# Altium footprint library samll car.PcbLib: 5 footprints
Each footprint in its own frame and in the unit in brackets; x right, y up, seen from the top. Pads: shape width x height; smd on the part's side, far side on the other; paste and mask are expansions set on the pad; w line width, h text height; cw(c..) or ccw(c..) is an arc to the next point about the centre after c.
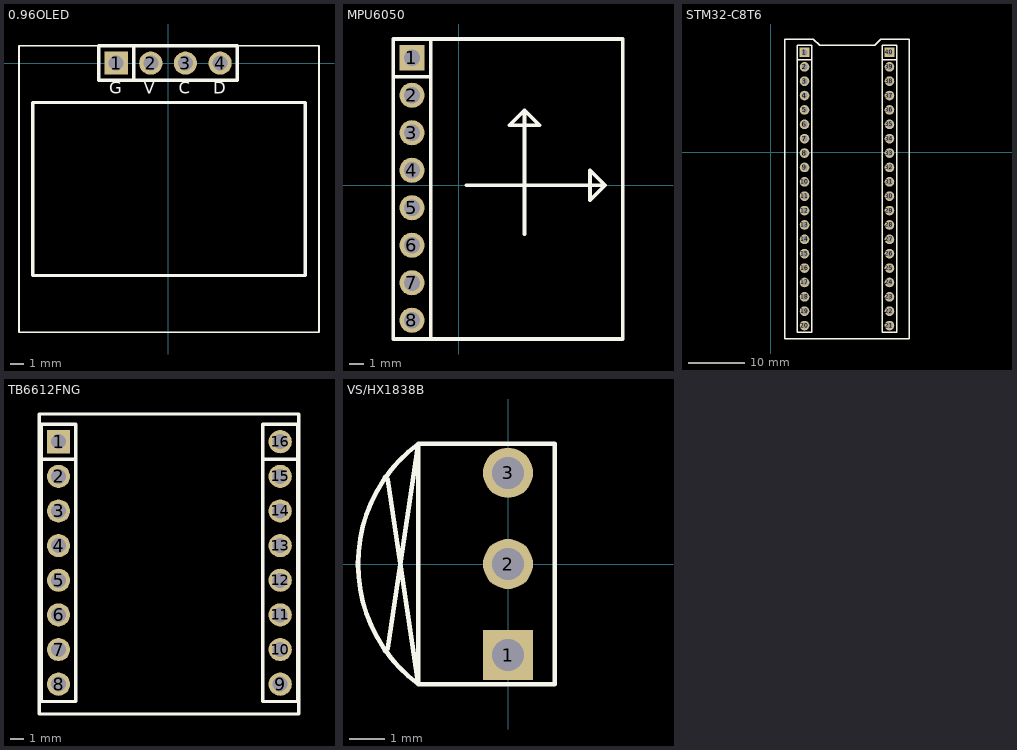
[diagram p0: the footprints below, top view; thin cyan lines are the x and y axes]

## 0.96OLED [mm]
pads (4):
  rect 1.7x1.7 hole 1.1 paste-2539.97 mask+0.051: 1(-3.81,0)
  round 1.7 hole 1.1 paste-2539.97 mask+0.051: 2(-1.27,0) 3(1.27,0) 4(3.81,0)
Top Overlay:
  lines w0.127: -10.936,-19.73 11.064,-19.73 11.064,1.27 -10.936,1.27 -10.936,-19.73
  lines w0.254: -2.516,-1.27 -2.516,1.27 ; -2.516,1.27 -5.08,1.27 -5.08,-1.27 5.08,-1.27 5.08,1.27 -2.516,1.27 ; -9.936,-15.572 10.064,-15.572 10.064,-2.888 -9.936,-2.888 -9.936,-15.572
  text "D" at 3.302,-2.54 h1.52
  text "C" at 0.762,-2.524 h1.52
  text "V" at -1.777,-2.54 h1.52
  text "G" at -4.318,-2.524 h1.52
Mechanical 15:
  lines w0.003: 1.206,0.127 1.207,0.127

## MPU6050 [mm]
pads (8):
  rect 1.7x1.7 hole 1.1 paste-2539.97 mask+0.051: 1(-3.175,8.636)
  round 1.7 hole 1.1 paste-2539.97 mask+0.051: 2(-3.175,6.096) 3(-3.175,3.556) 4(-3.175,1.016) 5(-3.175,-1.524) 6(-3.175,-4.064) 7(-3.175,-6.604) 8(-3.175,-9.144)
Top Overlay:
  lines w0.254: -4.445,7.342 -1.905,7.342 ; 0.508,0 9.906,0 ; 4.445,-3.302 4.445,5.08 ; -4.445,-10.414 11.115,-10.414 11.115,9.906 -4.445,9.906 ; -4.445,-10.414 -4.445,9.906 ; -4.445,-10.414 -1.905,-10.414 -1.905,7.342 ; -4.445,9.906 -1.905,9.906 -1.905,7.342 ; 4.445,5.08 5.461,4.064 3.556,4.064 3.429,4.064 4.445,5.08 ; 9.906,0 8.89,1.016 8.89,-1.016 9.906,0

## STM32-C8T6 [mm]
pads (40):
  rect 1.7x1.7 hole 1.1 paste-2539.97 mask+0.051: 1(5.969,17.653) 40(20.969,17.653)
  round 1.7 hole 1.1 paste-2539.97 mask+0.051: 2(5.969,15.113) 3(5.969,12.573) 4(5.969,10.033) 5(5.969,7.493) 6(5.969,4.953) 7(5.969,2.413) 8(5.969,-0.127) 9(5.969,-2.667) 10(5.969,-5.207) 11(5.969,-7.747) 12(5.969,-10.287) 13(5.969,-12.827) 14(5.969,-15.367) 15(5.969,-17.907) 16(5.969,-20.447) 17(5.969,-22.987) 18(5.969,-25.527) 19(5.969,-28.067) 20(5.969,-30.607) 21(20.969,-30.607) 22(20.969,-28.067) 23(20.969,-25.527) 24(20.969,-22.987) 25(20.969,-20.447) 26(20.969,-17.907) 27(20.969,-15.367) 28(20.969,-12.827) 29(20.969,-10.287) 30(20.969,-7.747) 31(20.969,-5.207) 32(20.969,-2.667) 33(20.969,-0.127) 34(20.969,2.413) 35(20.969,4.953) 36(20.969,7.493) 37(20.969,10.033) 38(20.969,12.573) 39(20.969,15.113)
Top Overlay:
  lines w0.254: 4.699,16.359 7.239,16.359 ; 19.699,-16.637 19.699,18.923 ; 22.239,-16.637 22.239,16.359 ; 7.239,16.359 7.239,18.923 4.699,18.923 4.699,-31.75 7.239,-31.75 7.239,16.359 ; 19.699,18.923 22.239,18.923 ; 19.699,18.923 22.239,18.923 ; 19.699,18.923 19.699,-31.75 22.239,-31.75 22.239,16.359 ; 22.239,16.359 19.699,16.359 22.239,16.359 ; 22.239,16.359 22.239,18.923 ; 22.239,16.359 22.239,18.923 ; 2.469,-32.977 2.469,20.023 7.469,20.023 7.536,20.023 8.636,18.923 18.369,18.923 19.469,20.023 24.469,20.023 24.469,-32.977 2.469,-32.977
Mechanical 15:
  lines w0.003: 21.096,12.637 21.096,12.636 ; 21.096,12.637 21.096,12.636 ; 6.096,12.637 6.096,12.636

## TB6612FNG [mm]
pads (16):
  rect 1.7x1.7 hole 1.1 paste-2539.97 mask+0.051: 1(-237.617,271.78)
  round 1.7 hole 1.1 paste-2539.97 mask+0.051: 2(-237.617,269.24) 3(-237.617,266.7) 4(-237.617,264.16) 5(-237.617,261.62) 6(-237.617,259.08) 7(-237.617,256.54) 8(-237.617,254) 9(-221.361,254) 10(-221.361,256.54) 11(-221.361,259.08) 12(-221.361,261.62) 13(-221.361,264.16) 14(-221.361,266.7) 15(-221.361,269.24) 16(-221.361,271.78)
Top Overlay:
  lines w0.254: -238.887,270.486 -236.347,270.486 ; -222.631,270.486 -220.091,270.486 ; -236.347,270.486 -236.347,273.05 -238.887,273.05 -238.887,252.73 -236.347,252.73 -236.347,270.486 ; -220.091,270.486 -220.091,273.05 -222.631,273.05 -222.631,252.73 -220.091,252.73 -220.091,270.486 ; -239.014,251.812 -239.014,273.812 -220.014,273.812 -220.014,251.812 -239.014,251.812
Mechanical 15:
  lines w0.003: -237.49,266.764 -237.49,266.763 ; -221.234,266.764 -221.234,266.763

## VS/HX1838B [mil]
pads (3):
  rect 55x55 hole 35 paste-99999 mask+2: 1(0,-100)
  round 55 hole 35 paste-99999 mask+2: 2(0,0) 3(0,100)
Top Overlay:
  lines w5: -135,-95 -131.95,-92.74 -98.43,131.89 ; -135,95 -131.95,92.74 -98.43,-131.89 ; -98.43,-131.89 cw(c0,0) -98.43,131.89 ; -98.43,-131.89 -98.43,131.89 ; -98.43,-131.89 51.18,-131.89 51.18,131.89 -98.43,131.89